# Altium footprint library Converter.PcbLib: 9 footprints
Each footprint in its own frame and in the unit in brackets; x right, y up, seen from the top. Pads: shape width x height; smd on the part's side, far side on the other; paste and mask are expansions set on the pad; w line width, h text height; cw(c..) or ccw(c..) is an arc to the next point about the centre after c.
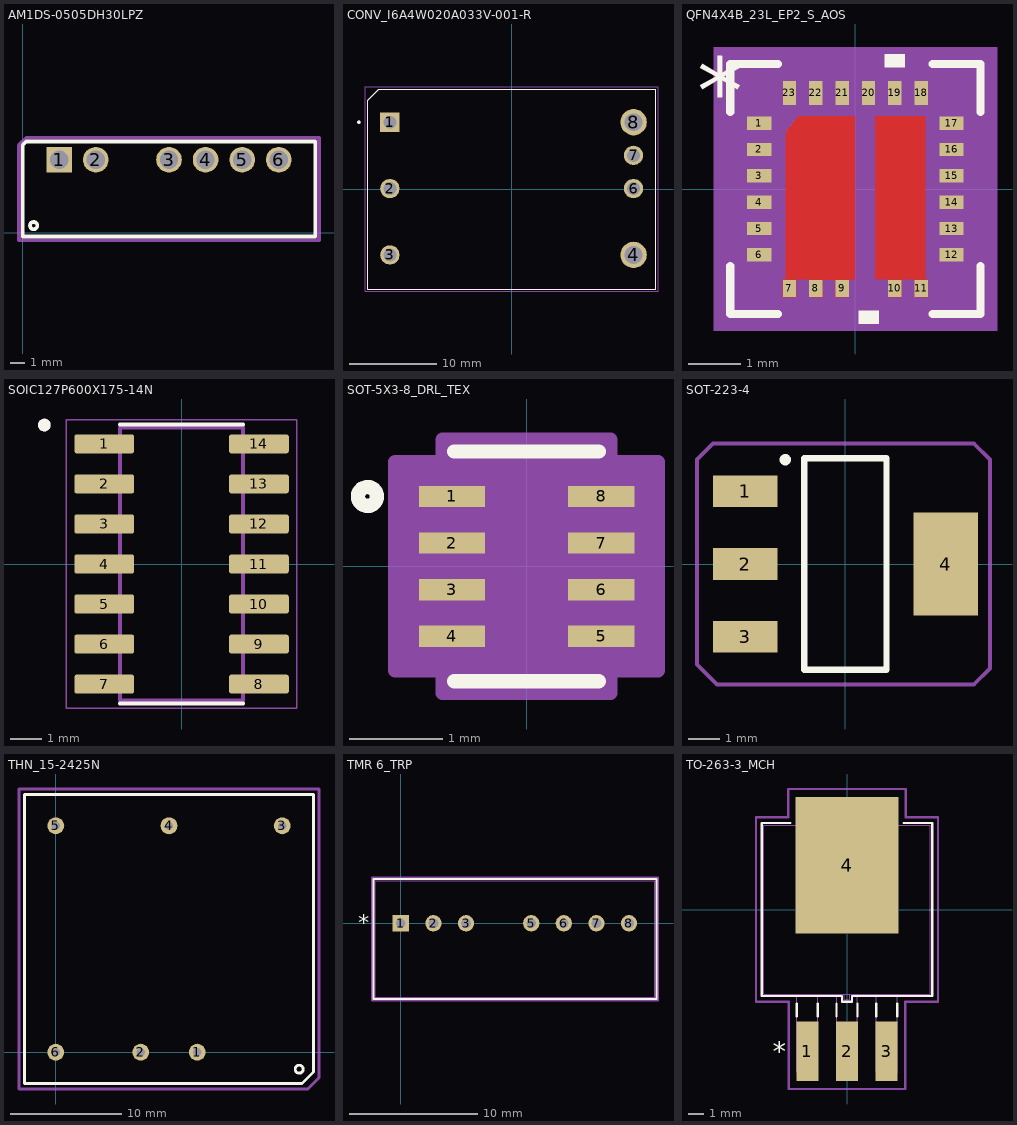
[diagram p0: the footprints below, top view; thin cyan lines are the x and y axes]

## AM1DS-0505DH30LPZ [mil]
pads (6):
  rect 70x70 hole 50: 1(100,200)
  round 70 hole 50: 2(200,200) 3(400,200) 4(500,200) 5(600,200) 6(700,200)
Top Overlay:
  circle w10: c30,20 r10
  lines w10: 0,-10 0,240 10,250 790,250 800,250 800,-10 0,-10
Mechanical 15:
  lines w10: -10,-20 810,-20 810,260 10,260 -10,240 -10,-20
3D body "AM1DS-0505DH30LPZ.stp": height 400, standoff -160, extent 15,0 785,240

## CONV_I6A4W020A033V-001-R [mm]
pads (7):
  rect 2.205x2.205 hole 1.47: 1(-13.95,7.65)
  round 2.205 hole 1.47: 2(-13.95,0.05) 3(-13.95,-7.55) 6(13.95,0.05) 7(13.95,3.85)
  round 3.03 hole 2.02: 4(13.95,-7.55) 8(13.95,7.65)
Top Overlay:
  circle w0.2: c-17.5,7.65 r0.1
  lines w0.127: -16.5,-11.45 -16.5,10.18 -15.23,11.45 16.5,11.45 16.5,-11.45 -16.5,-11.45
Mechanical 13:
  circle w0.2: c-17.5,7.65 r0.1
  lines w0.127: -16.5,-11.45 -16.5,10.18 -15.23,11.45 16.5,11.45 16.5,-11.45 -16.5,-11.45
Mechanical 15:
  lines w0.05: -16.75,-11.7 -16.75,11.7 16.75,11.7 16.75,-11.7 -16.75,-11.7
3D body "step_temp.STEP": height 9.65, standoff -3.56, extent -9.525,-11.684 9.525,11.684

## QFN4X4B_23L_EP2_S_AOS [mil]
pads (23):
  rect 18x10 smd paste+0 mask+0: 1(-71.85,49.25) 2(-71.85,29.55) 3(-71.85,9.85) 4(-71.85,-9.85) 5(-71.85,-29.55) 6(-71.85,-49.25) 12(71.85,-49.25) 13(71.85,-29.55) 14(71.85,-9.85) 15(71.85,9.85) 16(71.85,29.55) 17(71.85,49.25)
  rect 10x13 smd: 7(-49.25,-74.35) 8(-29.55,-74.35) 9(-9.85,-74.35) 10(29.55,-74.35) 11(49.25,-74.35)
  rect 10x18 smd paste+0 mask+0: 18(49.25,71.85) 19(29.55,71.85) 20(9.85,71.85) 21(-9.85,71.85) 22(-29.55,71.85) 23(-49.25,71.85)
Top Layer:
  region: -0.4,54.45 -42.5,54.45 -51.85,42.5 -51.85,-67.55 -54.25,-67.55 -54.25,-80.85 -44.25,-80.85 -44.25,-67.85 -34.55,-67.55 -34.55,-80.85 -24.55,-80.85 -24.55,-67.85 -14.85,-67.85 -14.85,-80.85 -4.85,-80.85 -4.85,-67.85 -0.4,-67.85
  region: 14.85,54.45 14.85,-67.55 24.55,-67.55 24.55,-80.85 34.55,-80.85 34.55,-67.55 44.25,-67.55 44.25,-80.85 54.25,-80.85 54.25,-67.55 52.25,-67.55 52.25,54.45
Top Overlay:
  region: 37.05,90.85 22.05,90.85 22.05,100.85 37.05,100.85
  region: 17.35,-90.85 2.35,-90.85 2.35,-100.85 17.35,-100.85
  lines w6: -93.5,-57.66 -93.5,-93.5 -57.65,-93.5 ; -93.5,57.66 -93.5,93.5 -57.65,93.5 ; 57.65,-93.5 93.5,-93.5 93.5,-57.66 ; 57.65,93.5 93.5,93.5 93.5,57.66
  text "*" at -118.35,49.1 h50
Top Paste:
  region: -0.4,54.45 -42.5,54.45 -51.85,42.5 -51.85,-67.55 -54.25,-67.55 -54.25,-80.85 -44.25,-80.85 -44.25,-67.85 -34.55,-67.55 -34.55,-80.85 -24.55,-80.85 -24.55,-67.85 -14.85,-67.85 -14.85,-80.85 -4.85,-80.85 -4.85,-67.85 -0.4,-67.85
  region: 14.85,54.45 14.85,-67.55 24.55,-67.55 24.55,-80.85 34.55,-80.85 34.55,-67.55 44.25,-67.55 44.25,-80.85 54.25,-80.85 54.25,-67.55 52.25,-67.55 52.25,54.45
Top Solder:
  region: 14.85,54.45 14.85,-67.55 24.55,-67.55 24.55,-80.85 34.55,-80.85 34.55,-67.55 44.25,-67.55 44.25,-80.85 54.25,-80.85 54.25,-67.55 52.25,-67.55 52.25,54.45
  region: -0.4,54.45 -42.5,54.45 -51.85,42.5 -51.85,-67.55 -54.25,-67.55 -54.25,-80.85 -44.25,-80.85 -44.25,-67.85 -34.55,-67.55 -34.55,-80.85 -24.55,-80.85 -24.55,-67.85 -14.85,-67.85 -14.85,-80.85 -4.85,-80.85 -4.85,-67.85 -0.4,-67.85
Boundary (Mech5):
  region: 105.85,-105.85 -105.85,-105.85 -105.85,105.85 105.85,105.85
Mechanical 13:
  lines w1: -78.5,28.5 -28.5,78.5 ; -78.5,-78.5 -78.5,78.5 78.5,78.5 78.5,-78.5 -78.5,-78.5
  text "*" at -65.35,34.1 h50
Mechanical 15:
  region: -64.25,-88.5 -88.5,-88.5 -88.5,-64.25 -90.85,-64.25 -90.85,64.25 -88.5,64.25 -88.5,88.5 -64.25,88.5 -64.25,90.85 64.25,90.85 64.25,88.5 88.5,88.5 88.5,64.25 90.85,64.25 90.85,-64.25 88.5,-64.25 88.5,-88.5 64.25,-88.5 64.25,-90.85 -64.25,-90.85
  lines w6: -90.85,-64.25 -90.85,64.25 -88.5,64.25 -88.5,88.5 -64.25,88.5 -64.25,90.85 64.25,90.85 64.25,88.5 88.5,88.5 88.5,64.25 90.85,64.25 90.85,-64.25 88.5,-64.25 88.5,-88.5 64.25,-88.5 64.25,-90.85 -64.25,-90.85 -64.25,-88.5 -88.5,-88.5 -88.5,-64.25 -90.85,-64.25
3D body: height 10, standoff 0, extent 0,0 10,10

## SOIC127P600X175-14N [mm]
pads (14):
  rrect25% 1.9x0.6 smd: 1(-2.455,3.81) 2(-2.455,2.54) 3(-2.455,1.27) 4(-2.455,0) 5(-2.455,-1.27) 6(-2.455,-2.54) 7(-2.455,-3.81) 8(2.455,-3.81) 9(2.455,-2.54) 10(2.455,-1.27) 11(2.455,0) 12(2.455,1.27) 13(2.455,2.54) 14(2.455,3.81)
Top Overlay:
  circle w0.2: c-4.355,4.41 r0.1
  lines w0.127: -1.95,-4.43 1.95,-4.43 ; -1.95,4.43 1.95,4.43
Mechanical 13:
  circle w0.2: c-4.355,4.41 r0.1
  lines w0.127: -1.95,-4.325 -1.95,4.325 1.95,4.325 1.95,-4.325 -1.95,-4.325
Mechanical 15:
  lines w0.05: -3.655,-4.575 -3.655,4.575 3.655,4.575 3.655,-4.575 -3.655,-4.575

## SOT-5X3-8_DRL_TEX [mil]
pads (8):
  rect 28x9 smd paste+0 mask+0: 1(-31.5,29.54) 2(-31.5,9.85) 3(-31.5,-9.85) 4(-31.5,-29.54) 5(31.5,-29.54) 6(31.5,-9.85) 7(31.5,9.85) 8(31.5,29.54)
Top Overlay:
  circle w6: c-67.19,29.54 r4
  lines w6: -30.5,-48.5 30.5,-48.5 ; -30.5,48.5 30.5,48.5
Mechanical 13:
  circle w0: c-17.5,29.54 r3
  lines w0: -12,43.5 ccw(c0,43.5) 12,43.5
  lines w1: -25.5,-43.5 25.5,-43.5 25.5,43.5 -25.5,43.5 -25.5,-43.5
Mechanical 15:
  region: -35.5,-44.03 -55.5,-44.03 -55.5,44.03 -35.5,44.03 -35.5,53.5 35.5,53.5 35.5,44.03 55.5,44.03 55.5,-44.03 35.5,-44.03 35.5,-53.5 -35.5,-53.5
  lines w6: -55.5,-44.03 -55.5,44.03 -35.5,44.03 -35.5,53.5 35.5,53.5 35.5,44.03 55.5,44.03 55.5,-44.03 35.5,-44.03 35.5,-53.5 -35.5,-53.5 -35.5,-44.03 -55.5,-44.03
3D body "SOT-5X3-8_DRL_TEX.step": height 24.09, standoff 0, extent -33.5,-43.5 33.5,43.5

## SOT-223-4 [mm]
pads (4):
  rect 2.05x1 smd paste+0 mask+0.102: 1(-3.175,2.3) 2(-3.175,0) 3(-3.175,-2.3)
  rect 2.05x3.25 smd paste+0 mask+0.102: 4(3.175,0)
Top Overlay:
  circle w0.254: c-1.905,3.302 r0.051
  lines w0.2: -1.3,-3.35 -1.3,3.35 1.3,3.35 1.3,-3.35 -1.3,-3.35
Boundary:
  lines w0.127: -4.699,-3.175 -4.064,-3.81 4.064,-3.81 4.572,-3.302 4.572,3.302 4.064,3.81 -4.191,3.81 -4.699,3.302 -4.699,-3.175
3D body "DCY0004A.stp": height 1.68, standoff 0, extent -3.5,-3.25 3.5,3.25

## THN_15-2425N [mil]
height 390
pads (6):
  round 60 hole 30 mask-99999: 1(500,0)
  round 60 hole 30: 2(300,0) 3(800,800) 4(400,800) 5(0,800) 6(0,0)
Top Overlay:
  circle w10: c860,-60 r14.14
  lines w10: -110,-110 870,-110 910,-70 910,910 -80,910 -110,910 -110,880 -110,-110
Top Solder:
  region: 470,-30 470,30 530,30 530,-30
Bottom Solder:
  region: 470,-30 470,30 530,30 530,-30
Mechanical 15:
  lines w10: -130,-130 890,-130 930,-90 930,930 -80,930 -130,930 -130,880 -130,-130
3D body "thn15n_3d_drawing.stp": height 392.2, standoff -218.03, extent -100,-100 900,900

## TMR 6_TRP [mil]
pads (7):
  rect 50x50 hole 30 mask+0: 1(0,0)
  round 50 hole 30 mask+0: 2(100,0) 3(200,0) 5(400,0) 6(500,0) 7(600,0) 8(700,0)
Top Overlay:
  lines w6: -84,-232.23 784,-232.23 784,135.77 -84,135.77 -84,-232.23
  text "*" at -131.5,-25 h50
Mechanical 13:
  lines w1: -79,-227.23 779,-227.23 779,130.77 -79,130.77 -79,-227.23
  text "*" at -81.5,-25 h50
Mechanical 15:
  lines w6: -89,-237.23 -89,140.77 789,140.77 789,-237.23 -89,-237.23
3D body: height 10, standoff 0, extent 0,0 10,10
3D body "tmr6_3d_drawing.stp": height 440.94, standoff -161.42, extent -80,-228.27 778.27,130

## TO-263-3_MCH [mil]
pads (4):
  rect 55x150 smd paste+0 mask+0: 1(-100,-358.5) 2(0,-358.5) 3(100,-358.5)
  rect 260x345 smd paste+0 mask+0: 4(0,112)
Top Overlay:
  lines w6: -143.1,218.5 -215,218.5 -215,-218.5 -12.5,-218.5 -12.5,-233.5 12.5,-233.5 12.5,-218.5 215,-218.5 215,218.5 143.1,218.5 ; -126.5,-269.5 -126.5,-237.5 ; -73.5,-269.5 -73.5,-237.5 ; -26.5,-269.5 -26.5,-237.5 ; 26.5,-269.5 26.5,-237.5 ; 73.5,-269.5 73.5,-237.5 ; 126.5,-269.5 126.5,-237.5
  text "*" at -187.5,-383.5 h50
Mechanical 13:
  lines w1: -210,-213.5 210,-213.5 210,213.5 -210,213.5 -210,-213.5 ; -126.5,-411.5 -126.5,-213.5 -73.5,-213.5 -73.5,-411.5 -126.5,-411.5 ; -26.5,-411.5 -26.5,-213.5 26.5,-213.5 26.5,-411.5 -26.5,-411.5 ; -7.5,-228.5 -7.5,-213.5 7.5,-213.5 7.5,-228.5 -7.5,-228.5 ; 73.5,-411.5 73.5,-213.5 126.5,-213.5 126.5,-411.5 73.5,-411.5
  text "*" at -112.5,-228.5 h50
Mechanical 15:
  lines w6: -230,-233.5 -230,233.5 -148,233.5 -148,304.5 148,304.5 148,233.5 230,233.5 230,-233.5 147.5,-233.5 147.5,-453.5 -147.5,-453.5 -147.5,-233.5 -230,-233.5
3D body "TO-263-3_MCH.step": height 181.1, standoff -2.01, extent -210,-411.5 210,253.5